# Altium footprint library TVS DIODE SmBJ75C13f.PcbLib: 1 footprints
Each footprint in its own frame and in the unit in brackets; x right, y up, seen from the top. Pads: shape width x height; smd on the part's side, far side on the other; paste and mask are expansions set on the pad; w line width, h text height; cw(c..) or ccw(c..) is an arc to the next point about the centre after c.
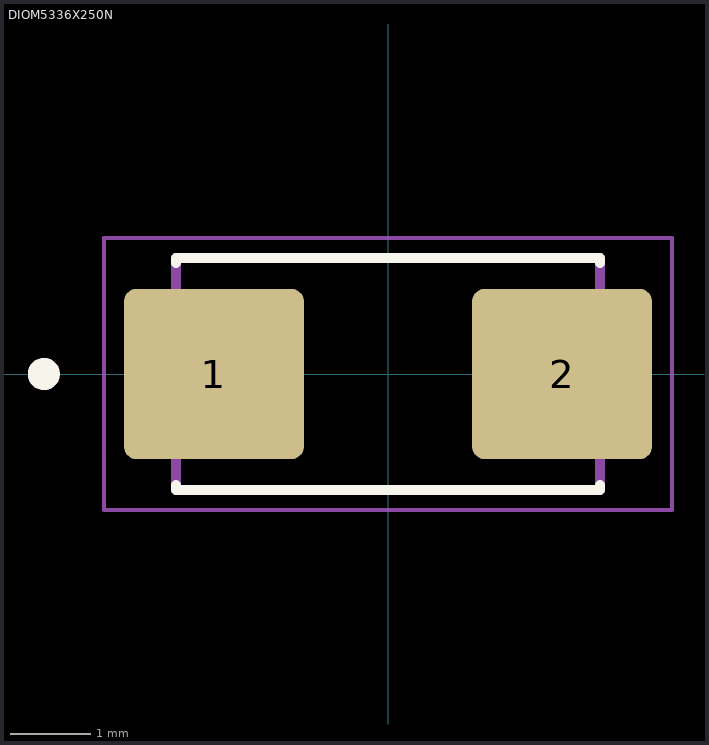
[diagram p0: the footprint, top view; thin cyan lines are the x and y axes]

## DIOM5336X250N [mm]
pads (2):
  rrect15% 2.25x2.13 smd: 1(-2.175,0) 2(2.175,0)
Top Overlay:
  circle w0.2: c-4.3,0 r0.1
  lines w0.127: -2.65,-1.385 -2.65,-1.45 2.65,-1.45 2.65,-1.385 ; -2.65,1.385 -2.65,1.45 2.65,1.45 2.65,1.385
Mechanical 13:
  circle w0.2: c-4.3,0 r0.1
  lines w0.127: -2.65,-1.45 2.65,-1.45 2.65,1.45 -2.65,1.45 -2.65,-1.45
Mechanical 15:
  lines w0.05: -3.55,-1.7 3.55,-1.7 3.55,1.7 -3.55,1.7 -3.55,-1.7
3D body "step_temp.STEP": height 2.5, standoff 0, extent -2.648,-1.81 2.648,1.81